# Altium schematic symbol library URM07.SchLib: 1 symbol
Pins are listed as number, name and electrical type; pins without a type are passive.

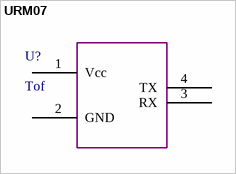
[diagram p0: symbol URM07]

## URM07
designator U?, comment Tof
pins: 1 Vcc, 2 GND, 3 RX, 4 TX